# Altium footprint library Con Rect Stag PCB.PcbLib: 59 footprints (part 1 of 4)
Each footprint in its own frame and in the unit in brackets; x right, y up, seen from the top. Pads: shape width x height; smd on the part's side, far side on the other; paste and mask are expansions set on the pad; w line width, h text height; cw(c..) or ccw(c..) is an arc to the next point about the centre after c.
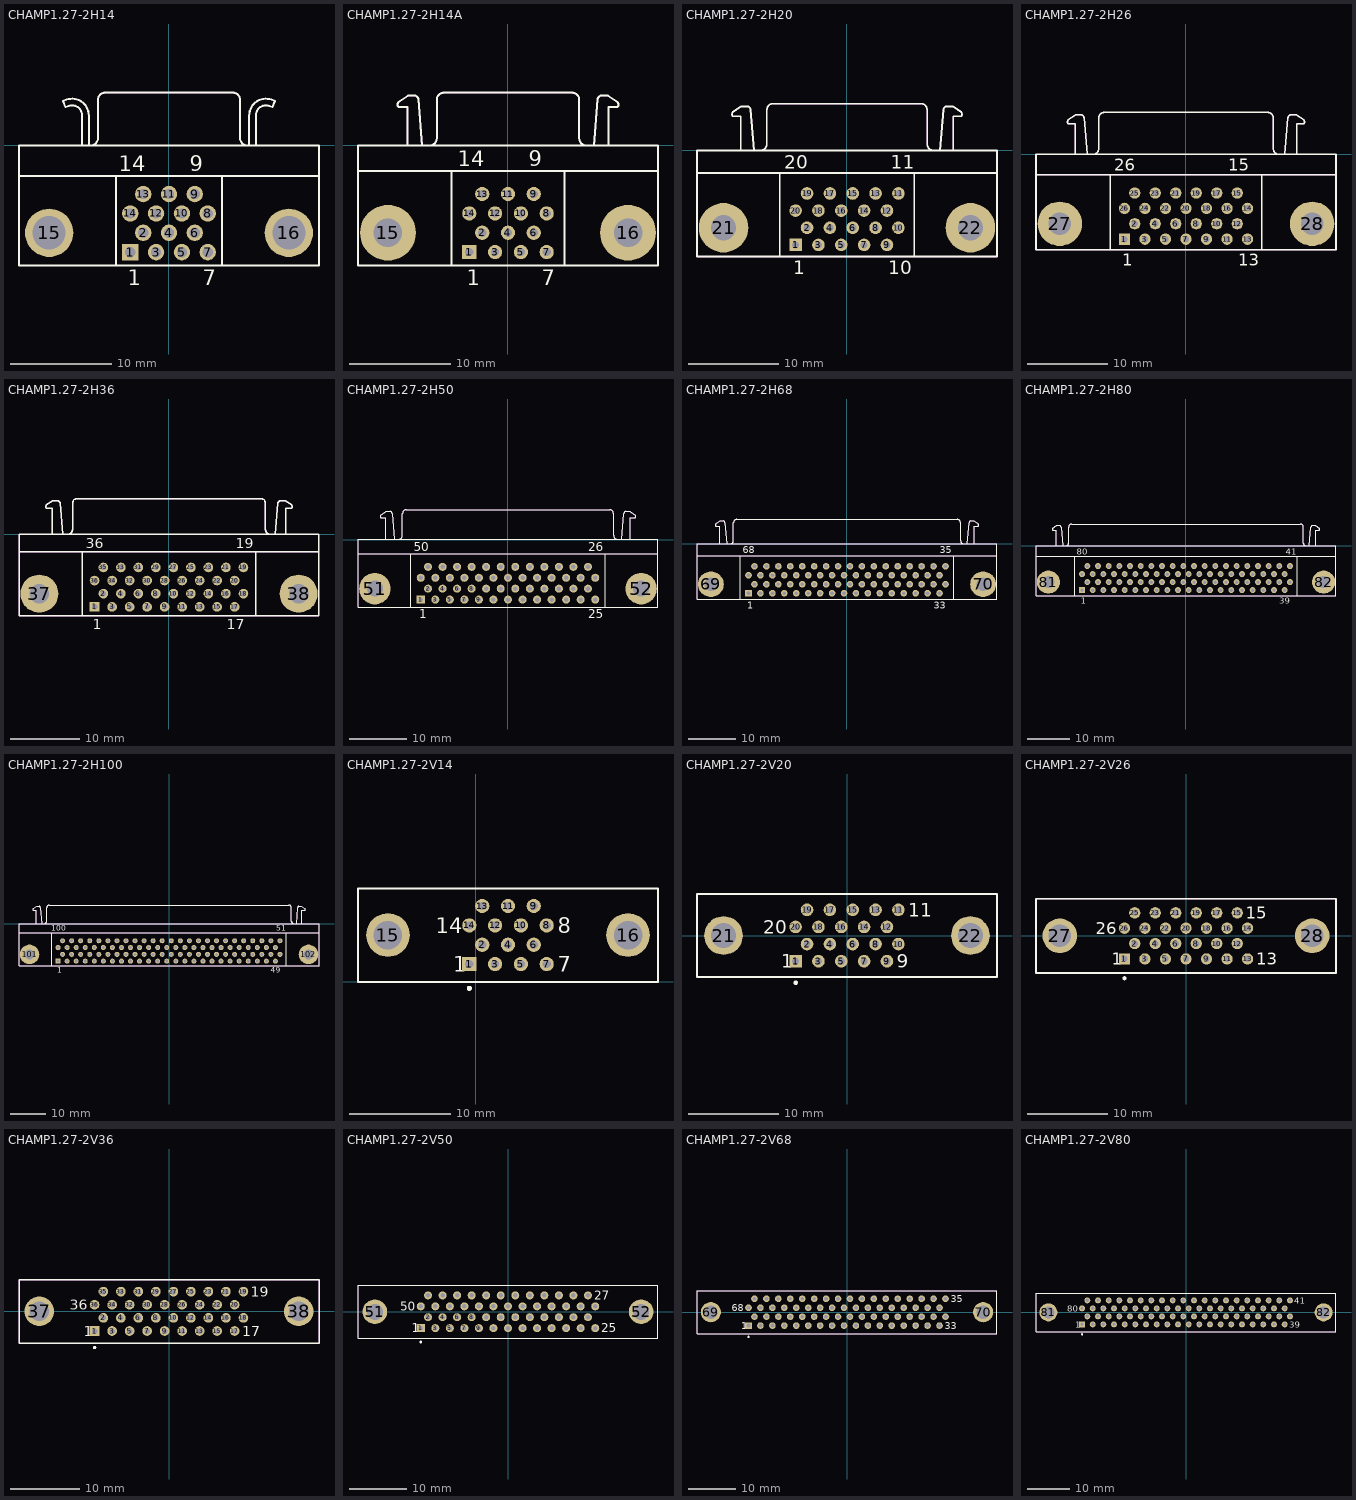
[diagram p0: the footprints below, top view; thin cyan lines are the x and y axes]

## CHAMP1.27-2H14 [mm] "Connector; CHAMP Miniature Ribbon 050 Series II; 14 Position; Right Angle"
height 10.2
pads (16):
  rect 1.61x1.61 hole 1.01: 1(-3.81,-10.505)
  round 1.61 hole 1.01: 2(-2.54,-8.6) 3(-1.27,-10.505) 4(0,-8.6) 5(1.27,-10.505) 6(2.54,-8.6) 7(3.81,-10.505) 8(3.81,-6.695) 9(2.54,-4.79) 10(1.27,-6.695) 11(0,-4.79) 12(-1.27,-6.695) 13(-2.54,-4.79) 14(-3.81,-6.695)
  round 4.76 hole 3.26: 15(-11.8,-8.6) 16(11.8,-8.6)
Top Overlay:
  lines w0.2: -14.77,-3 14.77,-3 ; -9.892,3.891 cw(c-9.55,2.95) -8.549,2.95 -8.549,0 ; -9.85,3.9 -10.213,3.796 -10.45,4.4 -10.115,4.503 cw(c-9.55,2.95) -7.897,2.95 ; -7.9,0 -7.9,2.95 ; -7.695,0.005 ccw(c-7.695,0.7) -7,0.7 -7,4.505 ; -6.995,4.505 cw(c-6.3,4.505) -6.3,5.2 6.3,5.2 cw(c6.3,4.505) 6.995,4.505 ; -5.2,-11.8 -5.2,-3 ; 5.2,-11.8 5.2,-3 ; 7,4.505 7,0.7 ccw(c7.695,0.7) 7.695,0.005 ; 7.897,2.95 cw(c9.55,2.95) 10.115,4.503 10.45,4.4 10.21,3.79 ; 7.9,0 7.9,2.95 ; 8.549,0 8.549,2.95 cw(c9.55,2.95) 9.892,3.891 ; 9.85,3.9 10.2,3.8 ; -14.77,-11.8 14.77,-11.8 14.77,0 -14.77,0 -14.77,-11.8
  text "9" at 2.04,-2.525 h1.5
  text "14" at -4.935,-2.525 h1.5
  text "7" at 3.31,-13.775 h1.5
  text "1" at -4.06,-13.775 h1.5
Mechanical 13:
  lines w0.1: -14.77,-3 14.77,-3 ; -10.21,3.79 -10.45,4.4 -10.115,4.503 cw(c-9.55,2.95) -7.897,2.95 ; -10.2,3.8 -9.85,3.9 ; -9.892,3.891 cw(c-9.55,2.95) -8.549,2.95 -8.549,0 ; -7.9,0 -7.9,2.95 ; -7.695,0.005 ccw(c-7.695,0.7) -7,0.7 -7,4.5 ; -6.995,4.505 cw(c-6.3,4.505) -6.3,5.2 6.3,5.2 cw(c6.3,4.505) 6.995,4.505 ; 7,4.5 7,0.7 ccw(c7.695,0.7) 7.695,0.005 ; 7.897,2.95 cw(c9.55,2.95) 10.115,4.503 10.45,4.4 10.21,3.79 ; 7.9,0 7.9,2.95 ; 8.549,0 8.549,2.95 cw(c9.55,2.95) 9.892,3.891 ; 9.85,3.9 10.2,3.8 ; -14.77,-11.8 -14.77,0 14.77,0 14.77,-11.8 -14.77,-11.8
3D body: height 8.8, standoff 1.4, extent -10.5,-0.05 10.5,5.25
3D body: height 10.2, standoff 0, extent -14.769,-2.999 14.769,-0.001
3D body: height 10.2, standoff 0, extent -14.769,-11.799 14.769,-3.001

## CHAMP1.27-2H14A [mm] "Connector; CHAMP Miniature Ribbon 050 Series II; 14 Position; Right Angle"
height 9.6
pads (16):
  rect 1.4x1.4 hole 0.8: 1(-3.81,-10.5)
  round 1.4 hole 0.8: 2(-2.54,-8.595) 3(-1.27,-10.5) 4(0,-8.595) 5(1.27,-10.5) 6(2.54,-8.595) 7(3.81,-10.5) 8(3.81,-6.69) 9(2.54,-4.785) 10(1.27,-6.69) 11(0,-4.785) 12(-1.27,-6.69) 13(-2.54,-4.785) 14(-3.81,-6.69)
  round 5.5 hole 2.8: 15(-11.82,-8.595) 16(11.82,-8.595)
Top Overlay:
  lines w0.2: -14.77,-2.5 14.77,-2.5 ; -10.785,4.27 -9.845,4.898 -9.123,4.898 cw(c-9.225,4.5) -8.815,4.5 ; -10.771,4.255 ccw(c-10.545,4.01) -10.795,3.79 -9.915,3.79 -9.915,0 ; -8.815,4.52 -8.445,0 ; -7.705,0.005 ccw(c-7.705,0.7) -7.01,0.7 -7.01,4.5 ; -7.005,4.505 cw(c-6.31,4.505) -6.31,5.2 6.31,5.2 cw(c6.31,4.505) 7.005,4.505 ; -5.57,-11.8 -5.57,-2.58 ; 5.57,-11.8 5.57,-2.5 ; 7.01,4.5 7.01,0.7 ccw(c7.705,0.7) 7.705,0.005 ; 8.445,0 8.815,4.52 ; 8.815,4.5 cw(c9.225,4.5) 9.123,4.898 9.845,4.898 10.785,4.27 ; 9.915,0 9.915,3.79 10.795,3.79 ccw(c10.545,4.01) 10.771,4.255 ; -14.77,-11.8 14.77,-11.8 14.77,0 -14.77,0 -14.77,-11.8
  text "9" at 2.04,-2.025 h1.5
  text "14" at -4.935,-2.025 h1.5
  text "1" at -4.06,-13.775 h1.5
  text "7" at 3.31,-13.775 h1.5
Mechanical 1:
  lines w0.1: -10.795,3.79 -9.915,3.79 -9.915,0 ; -10.785,4.27 -9.845,4.898 -9.123,4.898 ; -8.815,4.52 -8.445,0 ; -7.01,0.7 -7.01,4.5 ; -6.31,5.2 6.31,5.2 ; 7.01,0.7 7.01,4.5 ; 8.445,0 8.815,4.52 ; 9.123,4.898 9.845,4.898 10.785,4.27 ; 9.9,0 9.9,3.79 ; 9.915,3.79 10.795,3.79
Mechanical 13:
  lines w0.1: -14.77,-2.5 14.77,-2.5 ; -10.795,3.79 cw(c-10.545,4.01) -10.771,4.255 ; -9.123,4.898 cw(c-9.225,4.5) -8.815,4.5 ; -7.705,0.005 ccw(c-7.705,0.7) -7.01,0.7 ; -7.005,4.505 cw(c-6.31,4.505) -6.31,5.2 ; 6.31,5.2 cw(c6.31,4.505) 7.005,4.505 ; 7.01,0.7 ccw(c7.705,0.7) 7.705,0.005 ; 8.815,4.5 cw(c9.225,4.5) 9.123,4.898 ; 10.771,4.255 cw(c10.545,4.01) 10.795,3.79 ; -14.77,-11.8 -14.77,0 14.77,0 14.77,-11.8 -14.77,-11.8
3D body: height 8.45, standoff 1.15, extent -10.845,-0.05 10.845,5.25
3D body: height 9.6, standoff 0, extent -14.769,-11.799 14.769,-2.501
3D body: height 9.6, standoff 0, extent -14.769,-2.499 14.769,-0.001

## CHAMP1.27-2H20 [mm] "Connector; CHAMP Miniature Ribbon 050 Series II; 20 Position; Right Angle"
height 9.6
pads (22):
  rect 1.4x1.4 hole 0.8: 1(-5.715,-10.5)
  round 1.4 hole 0.8: 2(-4.445,-8.595) 3(-3.175,-10.5) 4(-1.905,-8.595) 5(-0.635,-10.5) 6(0.635,-8.595) 7(1.905,-10.5) 8(3.175,-8.595) 9(4.445,-10.5) 10(5.715,-8.595) 11(5.715,-4.785) 12(4.445,-6.69) 13(3.175,-4.785) 14(1.905,-6.69) 15(0.635,-4.785) 16(-0.635,-6.69) 17(-1.905,-4.785) 18(-3.175,-6.69) 19(-4.445,-4.785) 20(-5.715,-6.69)
  round 5.5 hole 2.8: 21(-13.725,-8.595) 22(13.725,-8.595)
Top Overlay:
  lines w0.2: -16.675,-2.5 16.675,-2.5 ; -12.69,4.27 -11.75,4.898 -11.028,4.898 cw(c-11.13,4.5) -10.72,4.5 ; -12.676,4.255 ccw(c-12.45,4.01) -12.7,3.79 -11.82,3.79 -11.82,0 ; -10.72,4.52 -10.35,0 ; -9.61,0.005 ccw(c-9.61,0.7) -8.915,0.7 -8.915,4.5 ; -8.91,4.505 cw(c-8.215,4.505) -8.215,5.2 8.215,5.2 cw(c8.215,4.505) 8.91,4.505 ; -7.475,-11.8 -7.475,-2.58 ; 7.475,-11.8 7.475,-2.5 ; 8.915,4.5 8.915,0.7 ccw(c9.61,0.7) 9.61,0.005 ; 10.35,0 10.72,4.52 ; 10.72,4.5 cw(c11.13,4.5) 11.028,4.898 11.75,4.898 12.69,4.27 ; 11.82,0 11.82,3.79 12.7,3.79 ccw(c12.45,4.01) 12.676,4.255 ; -16.675,-11.8 -16.675,0 16.675,0 16.675,-11.8 -16.675,-11.8
  text "1" at -5.965,-13.775 h1.5
  text "10" at 4.59,-13.775 h1.5
  text "20" at -6.965,-2.025 h1.5
  text "11" at 4.84,-2.025 h1.5
Mechanical 13:
  lines w0.1: -16.675,-2.5 16.675,-2.5 ; -12.7,4.27 -11.75,4.898 -11.028,4.898 cw(c-11.13,4.5) -10.72,4.5 ; -12.676,4.255 ccw(c-12.45,4.01) -12.7,3.79 -11.82,3.79 -11.82,0 11.82,0 11.82,3.79 12.7,3.79 ccw(c12.45,4.01) 12.676,4.255 ; -10.72,4.52 -10.35,0 ; -9.61,0.005 ccw(c-9.61,0.7) -8.915,0.7 -8.915,4.5 ; -8.91,4.5 cw(c-8.215,4.5) -8.215,5.195 ; -8.215,5.2 8.215,5.2 ; 8.215,5.195 cw(c8.215,4.5) 8.91,4.5 ; 8.915,4.5 8.915,0.7 ccw(c9.61,0.7) 9.61,0.005 ; 10.35,0 10.72,4.5 cw(c11.13,4.5) 11.028,4.898 11.75,4.898 12.69,4.27 ; -16.675,-11.8 16.675,-11.8 16.675,0 -16.675,0 -16.675,-11.8
3D body: height 8.45, standoff 1.15, extent -12.833,-0.05 12.833,5.25
3D body: height 9.6, standoff 0, extent -16.674,-11.799 16.674,-2.501
3D body: height 9.6, standoff 0, extent -16.674,-2.499 16.674,-0.001

## CHAMP1.27-2H26 [mm] "Connector; CHAMP Miniature Ribbon 050 Series II; 26 Position; Right Angle"
height 9.6
pads (28):
  rect 1.4x1.4 hole 0.8: 1(-7.62,-10.5)
  round 1.4 hole 0.8: 2(-6.35,-8.595) 3(-5.08,-10.5) 4(-3.81,-8.595) 5(-2.54,-10.5) 6(-1.27,-8.595) 7(0,-10.5) 8(1.27,-8.595) 9(2.54,-10.5) 10(3.81,-8.595) 11(5.08,-10.5) 12(6.35,-8.595) 13(7.62,-10.5) 14(7.62,-6.69) 15(6.35,-4.785) 16(5.08,-6.69) 17(3.81,-4.785) 18(2.54,-6.69) 19(1.27,-4.785) 20(0,-6.69) 21(-1.27,-4.785) 22(-2.54,-6.69) 23(-3.81,-4.785) 24(-5.08,-6.69) 25(-6.35,-4.785) 26(-7.62,-6.69)
  round 5.5 hole 2.8: 27(-15.63,-8.595) 28(15.63,-8.595)
Top Overlay:
  lines w0.2: -18.58,-2.5 18.58,-2.5 ; -14.595,4.27 -13.655,4.898 -12.933,4.898 cw(c-13.035,4.5) -12.625,4.5 ; -14.581,4.255 ccw(c-14.355,4.01) -14.605,3.79 -13.725,3.79 -13.725,0 ; -12.625,4.52 -12.255,0 ; -11.515,0.005 ccw(c-11.515,0.7) -10.82,0.7 -10.82,4.5 ; -10.815,4.505 cw(c-10.12,4.505) -10.12,5.2 10.12,5.2 cw(c10.12,4.505) 10.815,4.505 ; -9.38,-11.8 -9.38,-2.58 ; 9.38,-11.8 9.38,-2.5 ; 10.82,4.5 10.82,0.7 ccw(c11.515,0.7) 11.515,0.005 ; 12.255,0 12.625,4.52 ; 12.625,4.5 cw(c13.035,4.5) 12.933,4.898 13.655,4.898 14.595,4.27 ; 13.725,0 13.725,3.79 14.605,3.79 ccw(c14.355,4.01) 14.581,4.255 ; -18.58,-11.8 18.58,-11.8 18.58,0 -18.58,0 -18.58,-11.8
  text "1" at -7.87,-13.775 h1.5
  text "15" at 5.225,-2.025 h1.5
  text "26" at -8.87,-2.025 h1.5
  text "13" at 6.495,-13.775 h1.5
Mechanical 13:
  lines w0.1: -18.58,-2.5 18.58,-2.5 ; -14.595,4.27 -13.655,4.898 -12.933,4.898 cw(c-13.035,4.5) -12.625,4.5 ; -14.581,4.255 ccw(c-14.355,4.01) -14.605,3.79 -13.725,3.79 -13.725,0 13.8,0 ; -12.625,4.52 -12.255,0 ; -11.515,0.005 ccw(c-11.515,0.7) -10.82,0.7 -10.82,4.5 ; -10.815,4.505 cw(c-10.12,4.505) -10.12,5.2 10.12,5.2 cw(c10.12,4.505) 10.815,4.505 ; 10.82,4.5 10.82,0.7 ccw(c11.515,0.7) 11.515,0.005 ; 12.255,0 12.625,4.52 ; 12.625,4.5 cw(c13.035,4.5) 12.933,4.898 13.655,4.898 14.595,4.27 ; 13.725,0 13.725,3.79 14.605,3.79 ccw(c14.355,4.01) 14.581,4.255 ; -18.58,-11.8 -18.58,0 18.58,0 18.58,-11.8 -18.58,-11.8
3D body: height 8.45, standoff 1.15, extent -14.738,-0.05 14.738,5.25
3D body: height 9.6, standoff 0, extent -18.579,-11.799 18.579,-2.501
3D body: height 9.6, standoff 0, extent -18.579,-2.499 18.579,-0.001

## CHAMP1.27-2H36 [mm] "Connector; CHAMP Miniature Ribbon 050 Series II; 36 Position; Right Angle"
height 9.6
pads (38):
  rect 1.4x1.4 hole 0.8: 1(-10.795,-10.5)
  round 1.4 hole 0.8: 2(-9.525,-8.595) 3(-8.255,-10.5) 4(-6.985,-8.595) 5(-5.715,-10.5) 6(-4.445,-8.595) 7(-3.175,-10.5) 8(-1.905,-8.595) 9(-0.635,-10.5) 10(0.635,-8.595) 11(1.905,-10.5) 12(3.175,-8.595) 13(4.445,-10.5) 14(5.715,-8.595) 15(6.985,-10.5) 16(8.255,-8.595) 17(9.525,-10.5) 18(10.795,-8.595) 19(10.795,-4.785) 20(9.525,-6.69) 21(8.255,-4.785) 22(6.985,-6.69) 23(5.715,-4.785) 24(4.445,-6.69) 25(3.175,-4.785) 26(1.905,-6.69) 27(0.635,-4.785) 28(-0.635,-6.69) 29(-1.905,-4.785) 30(-3.175,-6.69) 31(-4.445,-4.785) 32(-5.715,-6.69) 33(-6.985,-4.785) 34(-8.255,-6.69) 35(-9.525,-4.785) 36(-10.795,-6.69)
  round 5.5 hole 2.8: 37(-18.805,-8.595) 38(18.805,-8.595)
Top Overlay:
  lines w0.2: -21.755,-2.5 21.755,-2.5 ; -17.77,4.27 -16.83,4.898 -16.108,4.898 cw(c-16.21,4.5) -15.8,4.5 ; -17.756,4.255 ccw(c-17.53,4.01) -17.78,3.79 -16.9,3.79 -16.9,0 ; -15.8,4.52 -15.43,0 ; -14.69,0.005 ccw(c-14.69,0.7) -13.995,0.7 -13.995,4.5 ; -13.99,4.505 cw(c-13.295,4.505) -13.295,5.2 13.295,5.2 cw(c13.295,4.505) 13.99,4.505 ; -12.555,-11.8 -12.555,-2.58 ; 12.555,-11.8 12.555,-2.5 ; 13.995,4.5 13.995,0.7 ccw(c14.69,0.7) 14.69,0.005 ; 15.43,0 15.8,4.52 ; 15.8,4.5 cw(c16.21,4.5) 16.108,4.898 16.83,4.898 17.77,4.27 ; 16.9,0 16.9,3.79 17.78,3.79 ccw(c17.53,4.01) 17.756,4.255 ; -21.755,-11.8 21.755,-11.8 21.755,0 -21.755,0 -21.755,-11.8
  text "19" at 9.67,-2.025 h1.5
  text "36" at -12.045,-2.025 h1.5
  text "17" at 8.4,-13.775 h1.5
  text "1" at -11.045,-13.775 h1.5
Mechanical 13:
  lines w0.1: -21.755,-2.5 21.755,-2.5 ; -17.77,4.27 -16.83,4.898 -16.108,4.898 cw(c-16.21,4.5) -15.8,4.5 ; -17.756,4.255 ccw(c-17.53,4.01) -17.78,3.79 -16.9,3.79 -16.9,0 ; -15.8,4.52 -15.43,0 ; -14.69,0.005 ccw(c-14.69,0.7) -13.995,0.7 -13.995,4.5 ; -13.99,4.505 cw(c-13.295,4.505) -13.295,5.2 13.295,5.2 cw(c13.295,4.505) 13.99,4.505 ; 13.995,4.5 13.995,0.7 ccw(c14.69,0.7) 14.69,0.005 ; 15.43,0 15.8,4.52 ; 15.8,4.5 cw(c16.21,4.5) 16.108,4.898 16.83,4.898 17.77,4.27 ; 16.9,0 16.9,3.79 17.78,3.79 ccw(c17.53,4.01) 17.756,4.255 ; -21.755,-11.8 -21.755,0 21.755,0 21.755,-11.8 -21.755,-11.8
3D body: height 8.45, standoff 1.15, extent -17.913,-0.05 17.913,5.25
3D body: height 9.6, standoff 0, extent -21.754,-11.799 21.754,-2.501
3D body: height 9.6, standoff 0, extent -21.754,-2.499 21.754,-0.001

## CHAMP1.27-2H50 [mm] "Connector; CHAMP Miniature Ribbon 050 Series II; 50 Position; Right Angle"
height 9.6
pads (52):
  rect 1.4x1.4 hole 0.8: 1(-15.24,-10.477)
  round 1.4 hole 0.8: 2(-13.97,-8.572) 3(-12.7,-10.477) 4(-11.43,-8.572) 5(-10.16,-10.477) 6(-8.89,-8.572) 7(-7.62,-10.477) 8(-6.35,-8.572) 9(-5.08,-10.477) 10(-3.81,-8.572) 11(-2.54,-10.477) 12(-1.27,-8.572) 13(0,-10.477) 14(1.27,-8.572) 15(2.54,-10.477) 16(3.81,-8.572) 17(5.08,-10.477) 18(6.35,-8.572) 19(7.62,-10.477) 20(8.89,-8.572) 21(10.16,-10.477) 22(11.43,-8.572) 23(12.7,-10.477) 24(13.97,-8.572) 25(15.24,-10.477) 26(15.24,-6.667) 27(13.97,-4.763) 28(12.7,-6.667) 29(11.43,-4.763) 30(10.16,-6.667) 31(8.89,-4.763) 32(7.62,-6.667) 33(6.35,-4.763) 34(5.08,-6.667) 35(3.81,-4.763) 36(2.54,-6.667) 37(1.27,-4.763) 38(0,-6.667) 39(-1.27,-4.763) 40(-2.54,-6.667) 41(-3.81,-4.763) 42(-5.08,-6.667) 43(-6.35,-4.763) 44(-7.62,-6.667) 45(-8.89,-4.763) 46(-10.16,-6.667) 47(-11.43,-4.763) 48(-12.7,-6.667) 49(-13.97,-4.763) 50(-15.24,-6.667)
  round 5.5 hole 2.8: 51(-23.25,-8.572) 52(23.25,-8.572)
Top Overlay:
  lines w0.2: -26.2,-2.478 26.2,-2.478 ; -22.215,4.292 -21.275,4.92 -20.553,4.92 cw(c-20.655,4.523) -20.245,4.523 ; -22.201,4.277 ccw(c-21.975,4.032) -22.225,3.812 -21.345,3.813 -21.345,0.022 ; -20.245,4.543 -19.875,0.022 ; -19.135,0.028 ccw(c-19.135,0.723) -18.44,0.723 -18.44,4.523 ; -18.435,4.527 cw(c-17.74,4.527) -17.74,5.222 17.74,5.222 cw(c17.74,4.527) 18.435,4.527 ; -17,-11.777 -17,-2.558 ; 17,-11.777 17,-2.478 ; 18.44,4.523 18.44,0.723 ccw(c19.135,0.723) 19.135,0.028 ; 19.875,0.022 20.245,4.543 ; 20.245,4.523 cw(c20.655,4.523) 20.553,4.92 21.275,4.92 22.215,4.292 ; 21.345,0.022 21.345,3.812 22.225,3.813 ccw(c21.975,4.032) 22.201,4.277 ; -26.2,-11.777 -26.2,0.022 26.2,0.022 26.2,-11.777 -26.2,-11.777
  text "1" at -15.49,-13.752 h1.5
  text "25" at 13.99,-13.752 h1.5
  text "50" at -16.49,-2.003 h1.5
  text "26" at 13.99,-2.003 h1.5
Mechanical 13:
  lines w0.1: -26.2,-2.478 26.2,-2.478 ; -22.215,4.292 -21.275,4.92 -20.553,4.92 cw(c-20.655,4.523) -20.245,4.523 ; -22.201,4.277 ccw(c-21.975,4.032) -22.225,3.812 -21.345,3.813 -21.345,0.022 ; -20.245,4.543 -19.875,0.022 ; -19.135,0.028 ccw(c-19.135,0.723) -18.44,0.723 -18.44,4.523 ; -18.435,4.527 cw(c-17.74,4.527) -17.74,5.222 17.74,5.222 cw(c17.74,4.527) 18.435,4.527 ; 18.44,4.523 18.44,0.723 ccw(c19.135,0.723) 19.135,0.028 ; 19.875,0.022 20.245,4.543 ; 20.245,4.523 cw(c20.655,4.523) 20.553,4.92 21.275,4.92 22.215,4.292 ; 21.345,0.022 21.345,3.812 22.225,3.813 ccw(c21.975,4.032) 22.201,4.277 ; -26.2,-11.777 -26.2,0.022 26.2,0.022 26.2,-11.777 -26.2,-11.777
3D body: height 9.6, standoff 0, extent -26.199,-11.777 26.199,-2.478
3D body: height 9.6, standoff 0, extent -26.199,-2.477 26.199,0.022
3D body: height 8.45, standoff 1.15, extent -22.358,-0.028 22.358,5.272

## CHAMP1.27-2H68 [mm] "Connector; CHAMP Miniature Ribbon 050 Series II; 68 Position; Right Angle"
height 9.6
pads (70):
  rect 1.4x1.4 hole 0.8: 1(-20.955,-10.5)
  round 1.4 hole 0.8: 2(-19.685,-8.595) 3(-18.415,-10.5) 4(-17.145,-8.595) 5(-15.875,-10.5) 6(-14.605,-8.595) 7(-13.335,-10.5) 8(-12.065,-8.595) 9(-10.795,-10.5) 10(-9.525,-8.595) 11(-8.255,-10.5) 12(-6.985,-8.595) 13(-5.715,-10.5) 14(-4.445,-8.595) 15(-3.175,-10.5) 16(-1.905,-8.595) 17(-0.635,-10.5) 18(0.635,-8.595) 19(1.905,-10.5) 20(3.175,-8.595) 21(4.445,-10.5) 22(5.715,-8.595) 23(6.985,-10.5) 24(8.255,-8.595) 25(9.525,-10.5) 26(10.795,-8.595) 27(12.065,-10.5) 28(13.335,-8.595) 29(14.605,-10.5) 30(15.875,-8.595) 31(17.145,-10.5) 32(18.415,-8.595) 33(19.685,-10.5) 34(20.955,-8.595) 35(20.955,-4.785) 36(19.685,-6.69) 37(18.415,-4.785) 38(17.145,-6.69) 39(15.875,-4.785) 40(14.605,-6.69) 41(13.335,-4.785) 42(12.065,-6.69) 43(10.795,-4.785) 44(9.525,-6.69) 45(8.255,-4.785) 46(6.985,-6.69) 47(5.715,-4.785) 48(4.445,-6.69) 49(3.175,-4.785) 50(1.905,-6.69) 51(0.635,-4.785) 52(-0.635,-6.69) 53(-1.905,-4.785) 54(-3.175,-6.69) 55(-4.445,-4.785) 56(-5.715,-6.69) 57(-6.985,-4.785) 58(-8.255,-6.69) 59(-9.525,-4.785) 60(-10.795,-6.69) 61(-12.065,-4.785) 62(-13.335,-6.69) 63(-14.605,-4.785) 64(-15.875,-6.69) 65(-17.145,-4.785) 66(-18.415,-6.69) 67(-19.685,-4.785) 68(-20.955,-6.69)
  round 5.5 hole 2.8: 69(-28.965,-8.595) 70(28.965,-8.595)
Top Overlay:
  lines w0.2: -31.915,-2.5 31.915,-2.5 ; -27.93,4.27 -26.99,4.898 -26.268,4.898 cw(c-26.37,4.5) -25.96,4.5 ; -27.916,4.255 ccw(c-27.69,4.01) -27.94,3.79 -27.06,3.79 -27.06,0 ; -25.96,4.52 -25.59,0 ; -24.85,0.005 ccw(c-24.85,0.7) -24.155,0.7 -24.155,4.5 ; -24.15,4.505 cw(c-23.455,4.505) -23.455,5.2 23.455,5.2 cw(c23.455,4.505) 24.15,4.505 ; -22.715,-11.8 -22.715,-2.58 ; 22.715,-11.8 22.715,-2.5 ; 24.155,4.5 24.155,0.7 ccw(c24.85,0.7) 24.85,0.005 ; 25.59,0 25.96,4.52 ; 25.96,4.5 cw(c26.37,4.5) 26.268,4.898 26.99,4.898 27.93,4.27 ; 27.06,0 27.06,3.79 27.94,3.79 ccw(c27.69,4.01) 27.916,4.255 ; -31.915,-11.8 -31.915,0 31.915,0 31.915,-11.8 -31.915,-11.8
  text "35" at 19.705,-2.025 h1.5
  text "68" at -22.205,-2.025 h1.5
  text "33" at 18.435,-13.775 h1.5
  text "1" at -21.205,-13.775 h1.5
Mechanical 13:
  lines w0.1: -31.915,-2.5 31.915,-2.5 ; -27.93,4.27 -26.99,4.898 -26.268,4.898 cw(c-26.37,4.5) -25.96,4.5 ; -27.916,4.255 ccw(c-27.69,4.01) -27.94,3.79 -27.06,3.79 -27.06,0 27.06,0 27.06,3.79 27.94,3.79 ccw(c27.69,4.01) 27.916,4.255 ; -25.96,4.52 -25.59,0 ; -24.85,0.005 ccw(c-24.85,0.7) -24.155,0.7 -24.155,4.5 ; -24.15,4.505 cw(c-23.455,4.505) -23.455,5.2 23.455,5.2 cw(c23.455,4.505) 24.15,4.505 ; 24.155,4.5 24.155,0.7 ccw(c24.85,0.7) 24.85,0.005 ; 25.59,0 25.96,4.52 ; 25.96,4.5 cw(c26.37,4.5) 26.268,4.898 26.99,4.898 27.93,4.27 ; -31.915,-11.8 31.915,-11.8 31.915,0 -31.915,0 -31.915,-11.8
3D body: height 9.6, standoff 0, extent -31.914,-11.799 31.914,-2.501
3D body: height 9.6, standoff 0, extent -31.914,-2.499 31.914,-0.001
3D body: height 8.45, standoff 1.15, extent -28.123,-0.1 28.123,5.3

## CHAMP1.27-2H80 [mm] "Connector; CHAMP Miniature Ribbon 050 Series II; 80 Position; Right Angle"
height 9.6
pads (82):
  rect 1.4x1.4 hole 0.8: 1(-24.765,-10.5)
  round 1.4 hole 0.8: 2(-23.495,-8.595) 3(-22.225,-10.5) 4(-20.955,-8.595) 5(-19.685,-10.5) 6(-18.415,-8.595) 7(-17.145,-10.5) 8(-15.875,-8.595) 9(-14.605,-10.5) 10(-13.335,-8.595) 11(-12.065,-10.5) 12(-10.795,-8.595) 13(-9.525,-10.5) 14(-8.255,-8.595) 15(-6.985,-10.5) 16(-5.715,-8.595) 17(-4.445,-10.5) 18(-3.175,-8.595) 19(-1.905,-10.5) 20(-0.635,-8.595) 21(0.635,-10.5) 22(1.905,-8.595) 23(3.175,-10.5) 24(4.445,-8.595) 25(5.715,-10.5) 26(6.985,-8.595) 27(8.255,-10.5) 28(9.525,-8.595) 29(10.795,-10.5) 30(12.065,-8.595) 31(13.335,-10.5) 32(14.605,-8.595) 33(15.875,-10.5) 34(17.145,-8.595) 35(18.415,-10.5) 36(19.685,-8.595) 37(20.955,-10.5) 38(22.225,-8.595) 39(23.495,-10.5) 40(24.765,-8.595) 41(24.765,-4.785) 42(23.495,-6.69) 43(22.225,-4.785) 44(20.955,-6.69) 45(19.685,-4.785) 46(18.415,-6.69) 47(17.145,-4.785) 48(15.875,-6.69) 49(14.605,-4.785) 50(13.335,-6.69) 51(12.065,-4.785) 52(10.795,-6.69) 53(9.525,-4.785) 54(8.255,-6.69) 55(6.985,-4.785) 56(5.715,-6.69) 57(4.445,-4.785) 58(3.175,-6.69) 59(1.905,-4.785) 60(0.635,-6.69) 61(-0.635,-4.785) 62(-1.905,-6.69) 63(-3.175,-4.785) 64(-4.445,-6.69) 65(-5.715,-4.785) 66(-6.985,-6.69) 67(-8.255,-4.785) 68(-9.525,-6.69) 69(-10.795,-4.785) 70(-12.065,-6.69) 71(-13.335,-4.785) 72(-14.605,-6.69) 73(-15.875,-4.785) 74(-17.145,-6.69) 75(-18.415,-4.785) 76(-19.685,-6.69) 77(-20.955,-4.785) 78(-22.225,-6.69) 79(-23.495,-4.785) 80(-24.765,-6.69)
  round 5.5 hole 2.8: 81(-32.775,-8.595) 82(32.775,-8.595)
Top Overlay:
  lines w0.2: -35.725,-2.5 35.725,-2.5 ; -31.74,4.27 -30.8,4.898 -30.078,4.898 cw(c-30.18,4.5) -29.77,4.5 ; -31.726,4.255 ccw(c-31.5,4.01) -31.75,3.79 -30.87,3.79 -30.87,0 ; -29.77,4.52 -29.4,0 ; -28.66,0.005 ccw(c-28.66,0.7) -27.965,0.7 -27.965,4.5 ; -27.96,4.505 cw(c-27.265,4.505) -27.265,5.2 27.265,5.2 cw(c27.265,4.505) 27.96,4.505 ; -26.52,-11.8 -26.52,-2.58 ; 26.52,-11.8 26.52,-2.5 ; 27.965,4.5 27.965,0.7 ccw(c28.66,0.7) 28.66,0.005 ; 29.4,0 29.77,4.52 ; 29.77,4.5 cw(c30.18,4.5) 30.078,4.898 30.8,4.898 31.74,4.27 ; 30.87,0 30.87,3.79 31.75,3.79 ccw(c31.5,4.01) 31.726,4.255 ; -35.725,-11.8 -35.725,0 35.725,0 35.725,-11.8 -35.725,-11.8
  text "1" at -25.015,-13.775 h1.5
  text "39" at 22.245,-13.775 h1.5
  text "80" at -26.015,-2.025 h1.5
  text "41" at 23.765,-2.025 h1.5
Mechanical 13:
  lines w0.1: -35.725,-2.5 35.725,-2.5 ; -31.74,4.27 -30.8,4.898 -30.078,4.898 cw(c-30.18,4.5) -29.77,4.5 ; -31.726,4.255 ccw(c-31.5,4.01) -31.75,3.79 -30.87,3.79 -30.87,0 30.9,0 ; -29.77,4.52 -29.4,0 ; -28.66,0.005 ccw(c-28.66,0.7) -27.965,0.7 -27.965,4.5 ; -27.96,4.505 cw(c-27.265,4.505) -27.265,5.2 27.265,5.2 cw(c27.265,4.505) 27.96,4.505 ; 27.965,4.5 27.965,0.7 ccw(c28.66,0.7) 28.66,0.005 ; 29.4,0 29.77,4.52 ; 29.77,4.5 cw(c30.18,4.5) 30.078,4.898 30.8,4.898 31.74,4.27 ; 30.87,0 30.87,3.79 31.75,3.79 ccw(c31.5,4.01) 31.726,4.255 ; -35.725,-11.8 -35.725,0 35.725,0 35.725,-11.8 -35.725,-11.8
3D body: height 9.6, standoff 0, extent -35.724,-11.799 35.724,-2.501
3D body: height 7.3, standoff 1.15, extent -31.933,-0.1 31.933,5.3
3D body: height 9.6, standoff 0, extent -35.724,-2.499 35.724,-0.001

## CHAMP1.27-2H100 [mm] "Connector; CHAMP Miniature Ribbon 050 Series II; 100 Position; Right Angle"
height 9.6
pads (102):
  rect 1.4x1.4 hole 0.8: 1(-31.115,-10.5)
  round 1.4 hole 0.8: 2(-29.845,-8.595) 3(-28.575,-10.5) 4(-27.305,-8.595) 5(-26.035,-10.5) 6(-24.765,-8.595) 7(-23.495,-10.5) 8(-22.225,-8.595) 9(-20.955,-10.5) 10(-19.685,-8.595) 11(-18.415,-10.5) 12(-17.145,-8.595) 13(-15.875,-10.5) 14(-14.605,-8.595) 15(-13.335,-10.5) 16(-12.065,-8.595) 17(-10.795,-10.5) 18(-9.525,-8.595) 19(-8.255,-10.5) 20(-6.985,-8.595) 21(-5.715,-10.5) 22(-4.445,-8.595) 23(-3.175,-10.5) 24(-1.905,-8.595) 25(-0.635,-10.5) 26(0.635,-8.595) 27(1.905,-10.5) 28(3.175,-8.595) 29(4.445,-10.5) 30(5.715,-8.595) 31(6.985,-10.5) 32(8.255,-8.595) 33(9.525,-10.5) 34(10.795,-8.595) 35(12.065,-10.5) 36(13.335,-8.595) 37(14.605,-10.5) 38(15.875,-8.595) 39(17.145,-10.5) 40(18.415,-8.595) 41(19.685,-10.5) 42(20.955,-8.595) 43(22.225,-10.5) 44(23.495,-8.595) 45(24.765,-10.5) 46(26.035,-8.595) 47(27.305,-10.5) 48(28.575,-8.595) 49(29.845,-10.5) 50(31.115,-8.595) 51(31.115,-4.785) 52(29.845,-6.69) 53(28.575,-4.785) 54(27.305,-6.69) 55(26.035,-4.785) 56(24.765,-6.69) 57(23.495,-4.785) 58(22.225,-6.69) 59(20.955,-4.785) 60(19.685,-6.69) 61(18.415,-4.785) 62(17.145,-6.69) 63(15.875,-4.785) 64(14.605,-6.69) 65(13.335,-4.785) 66(12.065,-6.69) 67(10.795,-4.785) 68(9.525,-6.69) 69(8.255,-4.785) 70(6.985,-6.69) 71(5.715,-4.785) 72(4.445,-6.69) 73(3.175,-4.785) 74(1.905,-6.69) 75(0.635,-4.785) 76(-0.635,-6.69) 77(-1.905,-4.785) 78(-3.175,-6.69) 79(-4.445,-4.785) 80(-5.715,-6.69) 81(-6.985,-4.785) 82(-8.255,-6.69) 83(-9.525,-4.785) 84(-10.795,-6.69) 85(-12.065,-4.785) 86(-13.335,-6.69) 87(-14.605,-4.785) 88(-15.875,-6.69) 89(-17.145,-4.785) 90(-18.415,-6.69) 91(-19.685,-4.785) 92(-20.955,-6.69) 93(-22.225,-4.785) 94(-23.495,-6.69) 95(-24.765,-4.785) 96(-26.035,-6.69) 97(-27.305,-4.785) 98(-28.575,-6.69) 99(-29.845,-4.785) 100(-31.115,-6.69)
  round 5.5 hole 2.8: 101(-39.125,-8.595) 102(39.125,-8.595)
Top Overlay:
  lines w0.2: -42.075,-2.5 42.075,-2.5 ; -38.09,4.27 -37.15,4.898 -36.428,4.898 cw(c-36.53,4.5) -36.12,4.5 ; -38.076,4.255 ccw(c-37.85,4.01) -38.1,3.79 -37.22,3.79 -37.22,0 ; -36.12,4.52 -35.75,0 ; -35.01,0.005 ccw(c-35.01,0.7) -34.315,0.7 -34.315,4.5 ; -34.31,4.505 cw(c-33.615,4.505) -33.615,5.2 33.615,5.2 ; -32.875,-11.8 -32.875,-2.58 ; 32.875,-11.8 32.875,-2.5 ; 33.63,5.2 cw(c33.63,4.505) 34.325,4.505 ; 34.33,4.5 34.33,0.7 ccw(c35.025,0.7) 35.025,0.005 ; 35.765,0 36.135,4.52 ; 36.135,4.5 cw(c36.545,4.5) 36.443,4.898 37.165,4.898 38.105,4.27 ; 37.235,0 37.235,3.79 38.115,3.79 ccw(c37.865,4.01) 38.091,4.255 ; -42.075,-11.8 -42.075,0 42.075,0 42.075,-11.8 -42.075,-11.8
  text "1" at -31.365,-13.775 h1.5
  text "49" at 28.595,-13.775 h1.5
  text "100" at -32.99,-2.025 h1.5
  text "51" at 30.115,-2.025 h1.5
Mechanical 13:
  lines w0.1: -42.075,-2.5 42.075,-2.5 ; -38.09,4.27 -37.15,4.898 -36.428,4.898 cw(c-36.53,4.5) -36.12,4.5 ; -38.076,4.255 ccw(c-37.85,4.01) -38.1,3.79 -37.22,3.79 -37.22,0 ; -37.2,0 37.2,0 ; -36.12,4.52 -35.75,0 ; -35.01,0.005 ccw(c-35.01,0.7) -34.315,0.7 -34.315,4.5 ; -34.31,4.505 cw(c-33.615,4.505) -33.615,5.2 33.615,5.2 ; 33.63,5.2 cw(c33.63,4.505) 34.325,4.505 ; 34.33,4.5 34.33,0.7 ccw(c35.025,0.7) 35.025,0.005 ; 35.765,0 36.135,4.52 ; 36.135,4.5 cw(c36.545,4.5) 36.443,4.898 37.165,4.898 38.105,4.27 ; 37.235,0 37.235,3.79 38.115,3.79 ccw(c37.865,4.01) 38.091,4.255 ; -42.075,-11.8 42.075,-11.8 42.075,0 -42.075,0 -42.075,-11.8
3D body: height 8.45, standoff 1.15, extent -38.233,-0.05 38.248,5.25
3D body: height 9.6, standoff 0, extent -42.074,-11.799 42.074,-2.501
3D body: height 9.6, standoff 0, extent -42.074,-2.499 42.074,-0.001

## CHAMP1.27-2V14 [mm] "Connector; CHAMP Miniature Ribbon 050 Series II; 14 Position; Vertical"
height 11.1
pads (16):
  rect 1.4x1.4 hole 0.8: 1(-0.633,1.743)
  round 1.4 hole 0.8: 2(0.637,3.648) 3(1.907,1.743) 4(3.177,3.648) 5(4.447,1.743) 6(5.717,3.648) 7(6.987,1.743) 8(6.987,5.553) 9(5.717,7.458) 10(4.447,5.553) 11(3.177,7.458) 12(1.907,5.553) 13(0.637,7.458) 14(-0.633,5.553)
  round 4.3 hole 2.8: 15(-8.643,4.6) 16(14.997,4.6)
Top Overlay:
  circle w0.25: c-0.633,-0.65 r0.125
  lines w0.2: -11.593,0 17.947,0 17.947,9.2 -11.593,9.2 -11.593,0
  text "1" at -2.208,0.992 h1.5
  text "7" at 8.062,0.992 h1.5
  text "14" at -3.958,4.802 h1.5
  text "8" at 8.062,4.802 h1.5
Mechanical 13:
  lines w0.1: -11.593,0 17.947,0 17.947,9.2 -11.593,9.2 -11.593,0
3D body: height 11.1, standoff 0, extent -11.593,0 17.947,9.2

## CHAMP1.27-2V20 [mm] "Connector; CHAMP Miniature Ribbon 050 Series II; 20 Position; Vertical"
height 11.1
pads (22):
  rect 1.4x1.4 hole 0.8: 1(-5.715,-2.857)
  round 1.4 hole 0.8: 2(-4.445,-0.953) 3(-3.175,-2.857) 4(-1.905,-0.953) 5(-0.635,-2.857) 6(0.635,-0.953) 7(1.905,-2.857) 8(3.175,-0.953) 9(4.445,-2.857) 10(5.715,-0.953) 11(5.715,2.857) 12(4.445,0.953) 13(3.175,2.857) 14(1.905,0.953) 15(0.635,2.857) 16(-0.635,0.953) 17(-1.905,2.857) 18(-3.175,0.953) 19(-4.445,2.857) 20(-5.715,0.953)
  round 4.3 hole 2.8: 21(-13.725,0) 22(13.725,0)
Top Overlay:
  circle w0.25: c-5.715,-5.25 r0.125
  lines w0.2: -16.675,-4.6 -16.675,4.6 16.675,4.6 16.675,-4.6 -16.675,-4.6
  text "1" at -7.29,-3.608 h1.5
  text "11" at 6.79,2.107 h1.5
  text "20" at -9.29,0.202 h1.5
  text "9" at 5.52,-3.608 h1.5
Mechanical 13:
  lines w0.1: -16.675,-4.6 -16.675,4.6 16.675,4.6 16.675,-4.6 -16.675,-4.6
3D body: height 11.1, standoff 0, extent -16.675,-4.6 16.675,4.6

## CHAMP1.27-2V26 [mm] "Connector; CHAMP Miniature Ribbon 050 Series II; 26 Position; Vertical"
height 11.1
pads (28):
  rect 1.4x1.4 hole 0.8: 1(-7.62,-2.857)
  round 1.4 hole 0.8: 2(-6.35,-0.953) 3(-5.08,-2.857) 4(-3.81,-0.953) 5(-2.54,-2.857) 6(-1.27,-0.953) 7(0,-2.857) 8(1.27,-0.953) 9(2.54,-2.857) 10(3.81,-0.953) 11(5.08,-2.857) 12(6.35,-0.953) 13(7.62,-2.857) 14(7.62,0.953) 15(6.35,2.857) 16(5.08,0.953) 17(3.81,2.857) 18(2.54,0.953) 19(1.27,2.857) 20(0,0.953) 21(-1.27,2.857) 22(-2.54,0.953) 23(-3.81,2.857) 24(-5.08,0.953) 25(-6.35,2.857) 26(-7.62,0.953)
  round 4.3 hole 2.8: 27(-15.63,0) 28(15.63,0)
Top Overlay:
  circle w0.25: c-7.62,-5.25 r0.125
  lines w0.2: -18.58,-4.6 -18.58,4.6 18.58,4.6 18.58,-4.6 -18.58,-4.6
  text "1" at -9.195,-3.608 h1.5
  text "13" at 8.695,-3.608 h1.5
  text "26" at -11.195,0.202 h1.5
  text "15" at 7.425,2.107 h1.5
Mechanical 13:
  lines w0.1: -18.58,-4.6 -18.58,4.6 18.58,4.6 18.58,-4.6 -18.58,-4.6
3D body: height 11.1, standoff 0, extent -18.58,-4.6 18.58,4.6

## CHAMP1.27-2V36 [mm] "Connector; CHAMP Miniature Ribbon 050 Series II; 36 Position; Vertical"
height 11.1
pads (38):
  rect 1.4x1.4 hole 0.8: 1(-10.795,-2.857)
  round 1.4 hole 0.8: 2(-9.525,-0.953) 3(-8.255,-2.857) 4(-6.985,-0.953) 5(-5.715,-2.857) 6(-4.445,-0.953) 7(-3.175,-2.857) 8(-1.905,-0.953) 9(-0.635,-2.857) 10(0.635,-0.953) 11(1.905,-2.857) 12(3.175,-0.953) 13(4.445,-2.857) 14(5.715,-0.953) 15(6.985,-2.857) 16(8.255,-0.953) 17(9.525,-2.857) 18(10.795,-0.953) 19(10.795,2.857) 20(9.525,0.953) 21(8.255,2.857) 22(6.985,0.953) 23(5.715,2.857) 24(4.445,0.953) 25(3.175,2.857) 26(1.905,0.953) 27(0.635,2.857) 28(-0.635,0.953) 29(-1.905,2.857) 30(-3.175,0.953) 31(-4.445,2.857) 32(-5.715,0.953) 33(-6.985,2.857) 34(-8.255,0.953) 35(-9.525,2.857) 36(-10.795,0.953)
  round 4.3 hole 2.8: 37(-18.805,0) 38(18.805,0)
Top Overlay:
  circle w0.25: c-10.795,-5.25 r0.125
  lines w0.2: -21.755,-4.6 21.755,-4.6 21.755,4.6 -21.755,4.6 -21.755,-4.6
  text "19" at 11.87,2.107 h1.5
  text "36" at -14.37,0.202 h1.5
  text "17" at 10.6,-3.608 h1.5
  text "1" at -12.37,-3.608 h1.5
Mechanical 13:
  lines w0.1: -21.755,-4.6 -21.755,4.6 21.755,4.6 21.755,-4.6 -21.755,-4.6
3D body: height 11.1, standoff 0, extent -21.755,-4.6 21.755,4.6

## CHAMP1.27-2V50 [mm] "Connector; CHAMP Miniature Ribbon 050 Series II; 50 Position; Vertical"
height 11.1
pads (52):
  rect 1.4x1.4 hole 0.8: 1(-15.24,-2.857)
  round 1.4 hole 0.8: 2(-13.97,-0.953) 3(-12.7,-2.857) 4(-11.43,-0.953) 5(-10.16,-2.857) 6(-8.89,-0.953) 7(-7.62,-2.857) 8(-6.35,-0.953) 9(-5.08,-2.857) 10(-3.81,-0.953) 11(-2.54,-2.857) 12(-1.27,-0.953) 13(0,-2.857) 14(1.27,-0.953) 15(2.54,-2.857) 16(3.81,-0.953) 17(5.08,-2.857) 18(6.35,-0.953) 19(7.62,-2.857) 20(8.89,-0.953) 21(10.16,-2.857) 22(11.43,-0.953) 23(12.7,-2.857) 24(13.97,-0.953) 25(15.24,-2.857) 26(15.24,0.953) 27(13.97,2.857) 28(12.7,0.953) 29(11.43,2.857) 30(10.16,0.953) 31(8.89,2.857) 32(7.62,0.953) 33(6.35,2.857) 34(5.08,0.953) 35(3.81,2.857) 36(2.54,0.953) 37(1.27,2.857) 38(0,0.953) 39(-1.27,2.857) 40(-2.54,0.953) 41(-3.81,2.857) 42(-5.08,0.953) 43(-6.35,2.857) 44(-7.62,0.953) 45(-8.89,2.857) 46(-10.16,0.953) 47(-11.43,2.857) 48(-12.7,0.953) 49(-13.97,2.857) 50(-15.24,0.953)
  round 4.3 hole 2.8: 51(-23.25,0) 52(23.25,0)
Top Overlay:
  circle w0.25: c-15.24,-5.25 r0.125
  lines w0.2: -26.2,-4.6 -26.2,4.6 26.2,4.6 26.2,-4.6 -26.2,-4.6
  text "1" at -16.815,-3.608 h1.5
  text "27" at 15.045,2.107 h1.5
  text "50" at -18.815,0.202 h1.5
  text "25" at 16.315,-3.608 h1.5
Mechanical 13:
  lines w0.1: -26.2,-4.6 26.2,-4.6 26.2,4.6 -26.2,4.6 -26.2,-4.6
3D body: height 11.1, standoff 0, extent -26.2,-4.6 26.2,4.6

## CHAMP1.27-2V68 [mm] "Connector; CHAMP Miniature Ribbon 050 Series II; 68 Position; Vertical"
height 11.1
pads (70):
  rect 1.4x1.4 hole 0.8: 1(-20.955,-2.857)
  round 1.4 hole 0.8: 2(-19.685,-0.953) 3(-18.415,-2.857) 4(-17.145,-0.953) 5(-15.875,-2.857) 6(-14.605,-0.953) 7(-13.335,-2.857) 8(-12.065,-0.953) 9(-10.795,-2.857) 10(-9.525,-0.953) 11(-8.255,-2.857) 12(-6.985,-0.953) 13(-5.715,-2.857) 14(-4.445,-0.953) 15(-3.175,-2.857) 16(-1.905,-0.953) 17(-0.635,-2.857) 18(0.635,-0.953) 19(1.905,-2.857) 20(3.175,-0.953) 21(4.445,-2.857) 22(5.715,-0.953) 23(6.985,-2.857) 24(8.255,-0.953) 25(9.525,-2.857) 26(10.795,-0.953) 27(12.065,-2.857) 28(13.335,-0.953) 29(14.605,-2.857) 30(15.875,-0.953) 31(17.145,-2.857) 32(18.415,-0.953) 33(19.685,-2.857) 34(20.955,-0.953) 35(20.955,2.857) 36(19.685,0.953) 37(18.415,2.857) 38(17.145,0.953) 39(15.875,2.857) 40(14.605,0.953) 41(13.335,2.857) 42(12.065,0.953) 43(10.795,2.857) 44(9.525,0.953) 45(8.255,2.857) 46(6.985,0.953) 47(5.715,2.857) 48(4.445,0.953) 49(3.175,2.857) 50(1.905,0.953) 51(0.635,2.857) 52(-0.635,0.953) 53(-1.905,2.857) 54(-3.175,0.953) 55(-4.445,2.857) 56(-5.715,0.953) 57(-6.985,2.857) 58(-8.255,0.953) 59(-9.525,2.857) 60(-10.795,0.953) 61(-12.065,2.857) 62(-13.335,0.953) 63(-14.605,2.857) 64(-15.875,0.953) 65(-17.145,2.857) 66(-18.415,0.953) 67(-19.685,2.857) 68(-20.955,0.953)
  round 4.3 hole 2.8: 69(-28.965,0) 70(28.965,0)
Top Overlay:
  circle w0.25: c-20.955,-5.25 r0.125
  lines w0.2: -31.915,-4.6 31.915,-4.6 31.915,4.6 -31.915,4.6 -31.915,-4.6
  text "1" at -22.53,-3.608 h1.5
  text "33" at 20.76,-3.608 h1.5
  text "68" at -24.53,0.202 h1.5
  text "35" at 22.03,2.107 h1.5
Mechanical 13:
  lines w0.1: -31.915,-4.6 -31.915,4.6 31.915,4.6 31.915,-4.6 -31.915,-4.6
3D body: height 11.1, standoff 0, extent -31.915,-4.6 31.915,4.6

## CHAMP1.27-2V80 [mm] "Connector; CHAMP Miniature Ribbon 050 Series II; 80 Position; Vertical"
height 11.1
pads (82):
  rect 1.4x1.4 hole 0.8: 1(-24.765,-2.857)
  round 1.4 hole 0.8: 2(-23.495,-0.953) 3(-22.225,-2.857) 4(-20.955,-0.953) 5(-19.685,-2.857) 6(-18.415,-0.953) 7(-17.145,-2.857) 8(-15.875,-0.953) 9(-14.605,-2.857) 10(-13.335,-0.953) 11(-12.065,-2.857) 12(-10.795,-0.953) 13(-9.525,-2.857) 14(-8.255,-0.953) 15(-6.985,-2.857) 16(-5.715,-0.953) 17(-4.445,-2.857) 18(-3.175,-0.953) 19(-1.905,-2.857) 20(-0.635,-0.953) 21(0.635,-2.857) 22(1.905,-0.953) 23(3.175,-2.857) 24(4.445,-0.953) 25(5.715,-2.857) 26(6.985,-0.953) 27(8.255,-2.857) 28(9.525,-0.953) 29(10.795,-2.857) 30(12.065,-0.953) 31(13.335,-2.857) 32(14.605,-0.953) 33(15.875,-2.857) 34(17.145,-0.953) 35(18.415,-2.857) 36(19.685,-0.953) 37(20.955,-2.857) 38(22.225,-0.953) 39(23.495,-2.857) 40(24.765,-0.953) 41(24.765,2.857) 42(23.495,0.953) 43(22.225,2.857) 44(20.955,0.953) 45(19.685,2.857) 46(18.415,0.953) 47(17.145,2.857) 48(15.875,0.953) 49(14.605,2.857) 50(13.335,0.953) 51(12.065,2.857) 52(10.795,0.953) 53(9.525,2.857) 54(8.255,0.953) 55(6.985,2.857) 56(5.715,0.953) 57(4.445,2.857) 58(3.175,0.953) 59(1.905,2.857) 60(0.635,0.953) 61(-0.635,2.857) 62(-1.905,0.953) 63(-3.175,2.857) 64(-4.445,0.953) 65(-5.715,2.857) 66(-6.985,0.953) 67(-8.255,2.857) 68(-9.525,0.953) 69(-10.795,2.857) 70(-12.065,0.953) 71(-13.335,2.857) 72(-14.605,0.953) 73(-15.875,2.857) 74(-17.145,0.953) 75(-18.415,2.857) 76(-19.685,0.953) 77(-20.955,2.857) 78(-22.225,0.953) 79(-23.495,2.857) 80(-24.765,0.953)
  round 4.3 hole 2.8: 81(-32.775,0) 82(32.775,0)
Top Overlay:
  circle w0.25: c-24.765,-5.25 r0.125
  lines w0.2: -35.725,-4.6 -35.725,4.6 35.725,4.6 35.725,-4.6 -35.725,-4.6
  text "1" at -26.34,-3.608 h1.5
  text "39" at 24.57,-3.608 h1.5
  text "80" at -28.34,0.202 h1.5
  text "41" at 25.84,2.107 h1.5
Mechanical 13:
  lines w0.1: -35.725,-4.6 35.725,-4.6 35.725,4.6 -35.725,4.6 -35.725,-4.6
3D body: height 11.1, standoff 0, extent -35.725,-4.6 35.725,4.6